# Altium footprint library openmv-ae3.PcbLib: 66 footprints (part 4 of 5)
Each footprint in its own frame and in the unit in brackets; x right, y up, seen from the top. Pads: shape width x height; smd on the part's side, far side on the other; paste and mask are expansions set on the pad; w line width, h text height; cw(c..) or ccw(c..) is an arc to the next point about the centre after c.
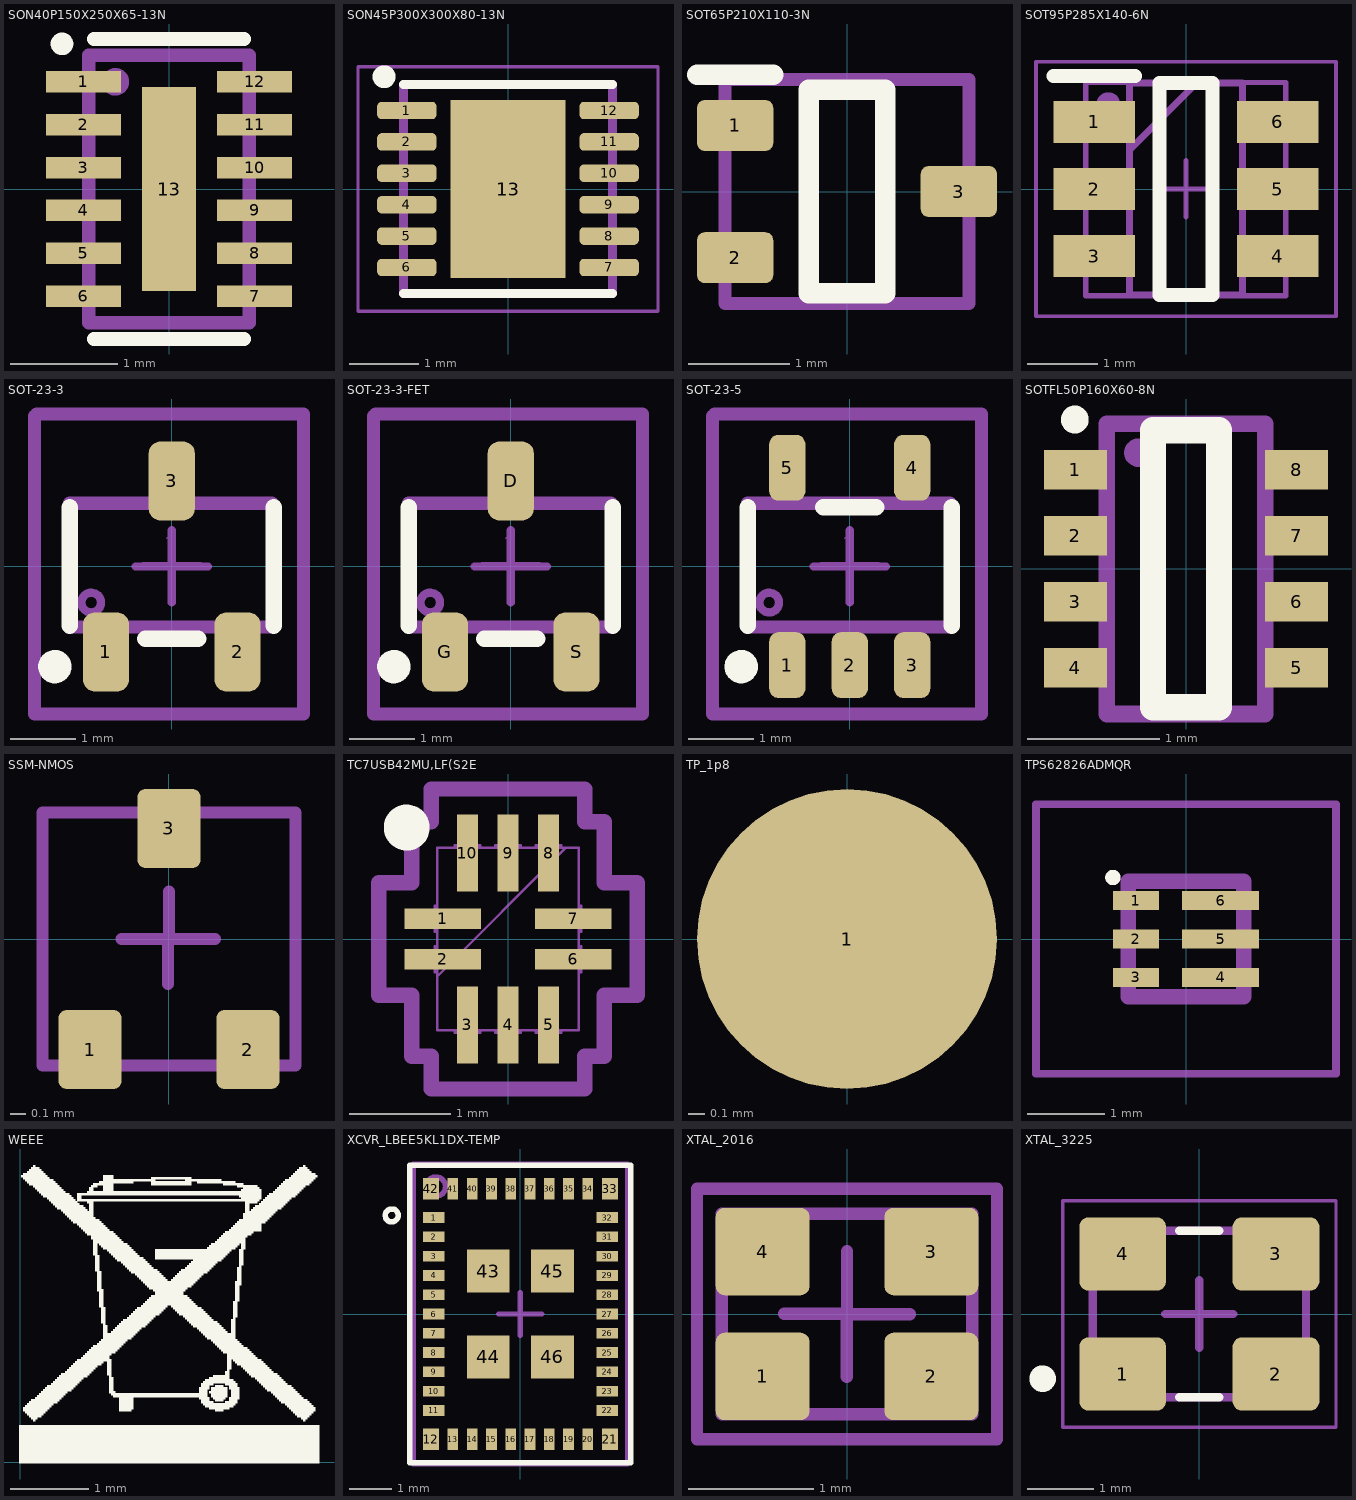
[diagram p3: the footprints below, top view; thin cyan lines are the x and y axes]

## SON40P150X250X65-13N [mil] "SON40P150X250X65-13N"
pads (13):
  rect 27.56x7.87 smd: 1(-31.5,39.37) 2(-31.5,23.62) 3(-31.5,7.87) 4(-31.5,-7.87) 5(-31.5,-23.62) 6(-31.5,-39.37) 7(31.5,-39.37) 8(31.5,-23.62) 9(31.5,-7.87) 10(31.5,7.87) 11(31.5,23.62) 12(31.5,39.37)
  rect 19.69x74.8 smd: 13(0,0)
Top Overlay:
  circle w5: c-39.32,53.32 r1.66
  lines w5: -27.56,-55.12 27.56,-55.12 ; -27.56,55.12 27.56,55.12
Top 3D Body:
  circle w5: c-19.68,39.37 r2.54
  lines w5: -29.53,-49.21 -29.53,49.21 29.53,49.21 29.53,-49.21 -29.53,-49.21
  text ".designator" at 31.01,-47.34 h25
3D body: height 23.62, standoff 0, extent -29.53,-49.21 29.53,49.21

## SON45P300X300X80-13N [mm]
pads (13):
  rrect50% 0.85x0.25 smd mask+0.051: 1(-1.45,1.125) 2(-1.45,0.675) 3(-1.45,0.225) 4(-1.45,-0.225) 5(-1.45,-0.675) 6(-1.45,-1.125) 7(1.45,-1.125) 8(1.45,-0.675) 9(1.45,-0.225) 10(1.45,0.225) 11(1.45,0.675) 12(1.45,1.125)
  rect 1.65x2.55 smd paste-0.254 mask+0.051: 13(0,0)
Top Overlay:
  circle w0.254: c-1.776,1.609 r0.037
  lines w0.127: -1.5,-1.5 1.5,-1.5 ; -1.5,1.5 1.5,1.5
Top 3D Body:
  lines w0.127: -0.25,0 0.25,0 ; 0,-0.25 0,0.25 ; -1.5,-1.5 1.5,-1.5 1.5,1.5 -1.5,1.5 -1.5,-1.5
  text ".designator" at -1.25,-1.635 h0.76
Top Courtyard:
  lines w0.05: -2.15,-1.75 2.15,-1.75 2.15,1.75 -2.15,1.75 -2.15,-1.75
3D body: height 0.5, standoff 0, extent -1.5,-1.5 1.5,1.5

## SOT65P210X110-3N [mm] "SOT65P210X110-3N"
pads (3):
  rrect30% 0.75x0.5 smd: 1(-1.1,0.65) 2(-1.1,-0.65) 3(1.1,0)
Top Overlay:
  lines w0.2: -1.475,1.15 -0.725,1.15 ; -0.375,-1 0.375,-1 0.375,1 -0.375,1 -0.375,-1
Top 3D Body:
  circle w0.127: c-1,0.8 r0.028
  lines w0.127: -1.2,-1.1 -1.2,1.1 1.2,1.1 1.2,-1.1 -1.2,-1.1
  text ".designator" at -1,-1.25 h0.64
3D body "SC-70.stp": height 1.1, standoff 0, extent -1.2,-1.1 1.2,1.1

## SOT95P285X140-6N [mm]
pads (6):
  rect 1.15x0.6 smd: 1(-1.3,0.95) 2(-1.3,0) 3(-1.3,-0.95) 4(1.3,-0.95) 5(1.3,0) 6(1.3,0.95)
Top Overlay:
  lines w0.2: -1.875,1.6 -0.725,1.6 ; -0.375,-1.5 0.375,-1.5 0.375,1.5 -0.375,1.5 -0.375,-1.5
Top 3D Body:
  circle w0.254: c-1.1,1.2 r0.042
  lines w0.076: -0.4,0 0,0 ; 0,-0.395 0,0.005 ; 0,0.4 0,0 ; 0.4,0 0,0 ; -1.421,-1.51 1.415,-1.51 1.415,1.508 -1.421,1.508 -1.421,-1.51
  text ".designator" at -1.2,-1.311 h0.51
Top Courtyard:
  lines w0.1: -0.8,0.55 0.15,1.5 ; -0.8,-1.5 0.8,-1.5 0.8,1.5 -0.8,1.5 -0.8,-1.5
Mechanical 20:
  lines w0.05: -2.125,-1.8 2.125,-1.8 2.125,1.8 -2.125,1.8 -2.125,-1.8
3D body "SOT23-6.stp": height 1.11, standoff -0.07, extent -1.418,-1.5 1.418,1.5

## SOT-23-3 [mm]
height 1.295
pads (3):
  rrect50% 0.7x1.2 smd: 1(-1,-1.3) 2(1,-1.3) 3(0,1.3)
Top Overlay:
  circle w0.254: c-1.778,-1.524 r0.127
  lines w0.254: -1.55,-0.9 -1.55,0.9 ; -0.4,-1.1 0.4,-1.1 ; 1.55,-0.9 1.55,0.9
Top 3D Body:
  circle w0.127: c-1.225,-0.55 r0.15
  lines w0.127: -0.432,0 0,0 ; 0,-0.432 0,0 ; 0,0.432 0,0 ; 0.432,0 0,0
  lines w0.2: -1.557,-0.931 -1.549,-0.923 1.557,-0.923 1.549,-0.916 1.549,0.936 1.524,0.961 -1.557,0.961 -1.557,-0.931
  text ".designator" at -1.346,0.406 h0.4
Top Courtyard:
  lines w0.003: -0.076,0.429 -0.025,0.48
  lines w0.125: -0.55,0 0,0 ; 0,-0.55 0,0 ; 0,0.55 0,0 ; 0.55,0 0,0
  lines w0.2: -2.085,2.285 -2.085,-2.244 2.001,-2.244 2.001,2.318 -2.052,2.318
3D body "SOT23-3.stp": height 1.11, standoff -0.07, extent -1.5,-1.418 1.5,1.418

## SOT-23-3-FET [mm]
height 1.295
pads (3):
  rrect50% 0.7x1.2 smd: D(0,1.3) G(-1,-1.3) S(1,-1.3)
Top Overlay:
  circle w0.254: c-1.778,-1.524 r0.127
  lines w0.254: -1.55,-0.9 -1.55,0.9 ; -0.4,-1.1 0.4,-1.1 ; 1.55,-0.9 1.55,0.9
Top 3D Body:
  circle w0.127: c-1.225,-0.55 r0.15
  lines w0.127: -0.432,0 0,0 ; 0,-0.432 0,0 ; 0,0.432 0,0 ; 0.432,0 0,0
  lines w0.2: -1.557,-0.931 -1.549,-0.923 1.557,-0.923 1.549,-0.916 1.549,0.936 1.524,0.961 -1.557,0.961 -1.557,-0.931
  text ".designator" at -1.346,0.406 h0.4
Top Courtyard:
  lines w0.003: -0.076,0.429 -0.025,0.48
  lines w0.125: -0.55,0 0,0 ; 0,-0.55 0,0 ; 0,0.55 0,0 ; 0.55,0 0,0
  lines w0.2: -2.085,2.285 -2.085,-2.244 2.001,-2.244 2.001,2.318 -2.052,2.318
3D body "SOT23-3.stp": height 1.11, standoff -0.07, extent -1.5,-1.418 1.5,1.418

## SOT-23-5 [mm]
height 1.295
pads (5):
  rrect50% 0.55x1 smd: 1(-0.95,-1.5) 2(0,-1.5) 3(0.95,-1.5) 4(0.95,1.5) 5(-0.95,1.5)
Top Overlay:
  circle w0.254: c-1.651,-1.524 r0.127
  lines w0.254: -1.55,-0.9 -1.55,0.9 ; -0.4,0.9 0.4,0.9 ; 1.55,-0.9 1.55,0.9
Top 3D Body:
  circle w0.127: c-1.225,-0.55 r0.15
  lines w0.127: -0.432,0 0,0 ; 0,-0.432 0,0 ; 0,0.432 0,0 ; 0.432,0 0,0
  lines w0.2: -1.557,-0.931 -1.557,0.961 1.524,0.961 1.549,0.936 1.549,-0.916 1.557,-0.923 -1.549,-0.923 -1.557,-0.931
  text ".designator" at -1.295,0.229 h0.4
Top Courtyard:
  lines w0.003: -0.076,0.429 -0.025,0.48
  lines w0.125: -0.55,0 0,0 ; 0,-0.55 0,0 ; 0,0.55 0,0 ; 0.55,0 0,0
  lines w0.2: -2.085,2.285 -2.085,-2.244 2.001,-2.244 2.001,2.318 -2.052,2.318
3D body "SOT-23-5.stp": height 1.18, standoff 0.01, extent -1.507,-1.336 1.481,1.464

## SOTFL50P160X60-8N [mm] "SOTFL50P160X60-8N"
pads (8):
  rect 0.475x0.3 smd mask+0.051: 1(-0.838,0.75) 2(-0.838,0.25) 3(-0.838,-0.25) 4(-0.838,-0.75) 5(0.838,-0.75) 6(0.838,-0.25) 7(0.838,0.25) 8(0.838,0.75)
Top Overlay:
  circle w0.127: c-0.843,1.131 r0.042
  lines w0.2: -0.25,-1.05 -0.25,1.05 0.25,1.05 0.25,-1.05 -0.25,-1.05
Top 3D Body:
  circle w0.127: c-0.361,0.88 r0.044
  lines w0.127: -0.6,-1.1 0.6,-1.1 0.6,1.1 -0.6,1.1 -0.6,-1.1
  text ".designator" at 0.75,-1.1 h0.64
3D body: height 0.6, standoff 0, extent -0.6,-1.1 0.6,1.1

## SSM-NMOS [mm]
pads (3):
  rrect25% 0.4x0.5 smd mask+0.05: 1(-0.5,-0.7) 2(0.5,-0.7) 3(0,0.7)
Top 3D Body:
  lines w0.076: -0.3,0 0,0 0,0.3 ; -0.007,-0.284 -0.007,0.016 ; -0.007,0 0.293,0 ; -0.8,-0.8 0.8,-0.8 0.8,0.8 -0.8,0.8 -0.8,-0.8
  text ".designator" at -0.7,-0.815 h0.5
3D body: height 0.8, standoff 0, extent -0.8,-0.8 0.8,0.8

## TC7USB42MU,LF(S2E [mm]
pads (10):
  rect 0.757x0.204 smd paste+0 mask+0: 1(-0.645,0.2) 2(-0.645,-0.2) 6(0.645,-0.2) 7(0.645,0.2)
  rect 0.204x0.757 smd paste+0 mask+0: 3(-0.4,-0.848) 4(0,-0.848) 5(0.4,-0.848) 8(0.4,0.848) 9(0,0.848) 10(-0.4,0.848)
Top Overlay:
  circle w0.254: c-1,1.1 r0.1
Top 3D Body:
  lines w0.025: -0.699,-0.368 0.572,0.902 ; -0.724,-0.327 -0.699,-0.327 -0.699,-0.073 -0.724,-0.073 -0.724,-0.327 ; -0.724,0.073 -0.699,0.073 -0.699,0.327 -0.724,0.327 -0.724,0.073 ; -0.699,-0.902 -0.699,0.902 0.699,0.902 0.699,-0.902 -0.699,-0.902 ; -0.527,-0.927 -0.273,-0.927 -0.273,-0.902 -0.527,-0.902 -0.527,-0.927 ; -0.527,0.902 -0.527,0.927 -0.273,0.927 -0.273,0.902 -0.527,0.902 ; -0.127,-0.927 0.127,-0.927 0.127,-0.902 -0.127,-0.902 -0.127,-0.927 ; -0.127,0.902 -0.127,0.927 0.127,0.927 0.127,0.902 -0.127,0.902 ; 0.273,-0.927 0.527,-0.927 0.527,-0.902 0.273,-0.902 0.273,-0.927 ; 0.273,0.902 0.273,0.927 0.527,0.927 0.527,0.902 0.273,0.902 ; 0.699,-0.327 0.724,-0.327 0.724,-0.073 0.699,-0.073 0.699,-0.327 ; 0.699,0.073 0.724,0.073 0.724,0.327 0.699,0.327 0.699,0.073
  text "*" at -0.584,-0.235 h1.27
  text ".designator" at -0.548,-0.929 h0.51
Top Courtyard:
  lines w0.152: -1.278,-0.556 -1.278,0.556 -0.953,0.556 -0.953,1.156 -0.756,1.156 -0.756,1.481 0.756,1.481 0.756,1.156 0.953,1.156 0.953,0.556 1.278,0.556 1.278,-0.556 0.953,-0.556 0.953,-1.156 0.756,-1.156 0.756,-1.481 -0.756,-1.481 -0.756,-1.156 -0.953,-1.156 -0.953,-0.556 -1.278,-0.556
3D body "UQFN10.step": height 0.5, standoff 0, extent -0.7,-0.9 0.7,0.9

## TP_1p8 [mm]
pads (1):
  round 1.8 smd paste-2: 1(0,0)

## TPS62826ADMQR [mm]
pads (6):
  rect 0.6x0.25 smd mask+0.05: 1(-0.65,0.5) 2(-0.65,0) 3(-0.65,-0.5)
  rect 1x0.25 smd mask+0.05: 4(0.45,-0.5) 5(0.45,0) 6(0.45,0.5)
Top Overlay:
  lines w0.1: -1,0.8 ccw(c-0.95,0.8) -0.9,0.8 ccw(c-0.95,0.8) -1,0.8
Top 3D Body:
  lines w0.076: -0.763,-0.734 0.731,-0.734 0.731,0.735 -0.763,0.735 -0.763,-0.734
  text ".designator" at -0.7,-0.711 h0.51
Top Courtyard:
  lines w0.2: -0.75,-0.75 -0.75,0.75 0.75,0.75 0.75,-0.75 -0.75,-0.75
Mechanical 20:
  lines w0.1: -1.95,-1.75 -1.95,1.75 1.95,1.75 1.95,-1.75 -1.95,-1.75
3D body: height 0.5, standoff 0, extent -0.76,-0.74 0.734,0.738

## WEEE [mm] "WEEE"
Top Overlay:
  drawing of 457 lines, arcs and shapes, not listed

## XCVR_LBEE5KL1DX-TEMP [mm] "XCVR_LBEE5KL1DX-TEMP"
pads (46):
  rect 0.5x0.25 smd mask+0.051: 1(-2.025,2.25) 2(-2.025,1.8) 3(-2.025,1.35) 4(-2.025,0.9) 5(-2.025,0.45) 6(-2.025,0) 7(-2.025,-0.45) 8(-2.025,-0.9) 9(-2.025,-1.35) 10(-2.025,-1.8) 11(-2.025,-2.25) 22(2.025,-2.25) 23(2.025,-1.8) 24(2.025,-1.35) 25(2.025,-0.9) 26(2.025,-0.45) 27(2.025,0) 28(2.025,0.45) 29(2.025,0.9) 30(2.025,1.35) 31(2.025,1.8) 32(2.025,2.25)
  rect 0.375x0.5 smd mask+0.051: 12(-2.088,-2.925) 21(2.088,-2.925) 33(2.088,2.925) 42(-2.088,2.925)
  rect 0.25x0.5 smd mask+0.051: 13(-1.575,-2.925) 14(-1.125,-2.925) 15(-0.675,-2.925) 16(-0.225,-2.925) 17(0.225,-2.925) 18(0.675,-2.925) 19(1.125,-2.925) 20(1.575,-2.925) 34(1.575,2.925) 35(1.125,2.925) 36(0.675,2.925) 37(0.225,2.925) 38(-0.225,2.925) 39(-0.675,2.925) 40(-1.125,2.925) 41(-1.575,2.925)
  rect 1x1 smd mask+0.051: 43(-0.75,1) 44(-0.75,-1) 45(0.75,1) 46(0.75,-1)
Top Overlay:
  circle w0.127: c-3,2.3 r0.15
  lines w0.127: -2.575,-3.475 2.575,-3.475 2.575,3.475 -2.575,3.475 -2.575,-3.475
Top 3D Body:
  circle w0.127: c-1.968,2.973 r0.224
  lines w0.127: -0.5,0 0,0 ; 0,-0.5 0,0 ; 0,0.5 0,0 ; 0.5,0 0,0 ; -2.5,-3.5 -2.5,3.5 2.5,3.5 2.5,-3.5 -2.5,-3.5
3D body: height 1.1, standoff 0, extent -2.5,-3.5 2.5,3.5

## XTAL_2016 [mm] "2.0x1.6mm"
pads (4):
  rrect20% 0.75x0.7 smd mask+0.05: 1(-0.675,-0.5) 2(0.675,-0.5) 3(0.675,0.5) 4(-0.675,0.5)
Top 3D Body:
  circle w0.1: c-0.6,-0.4 r0.1
  lines w0.1: -0.5,0 0,0 ; 0,-0.5 0,0 ; 0,0.5 0,0 ; 0.5,0 0,0 ; 0,0 0,0 ; -1,-0.8 -1,0.8 1,0.8 1,-0.8 -1,-0.8
  text ".designator" at -0.8,1 h0.4
Top Courtyard:
  circle w0.1: c-0.6,-0.4 r0.1
  lines w0.1: -0.5,0 0,0 ; 0,-0.5 0,0 ; 0,0.5 0,0 ; 0.5,0 0,0 ; 0,0 0,0 ; -1.2,-1 1.2,-1 1.2,1 -1.2,1 -1.2,-1
3D body: height 0.65, standoff 0, extent -1,-0.8 1,0.8

## XTAL_3225 [mm]
pads (4):
  rrect25% 1.3x1.1 smd: 1(-1.15,-0.9) 2(1.15,-0.9) 3(1.15,0.9) 4(-1.15,0.9)
Top Overlay:
  circle w0.2: c-2.35,-0.97 r0.1
  lines w0.127: -0.3,-1.25 0.3,-1.25 ; -0.3,1.25 0.3,1.25
Top 3D Body:
  circle w0.2: c-1.143,-0.889 r0.1
  lines w0.127: -0.508,0 0,0 ; 0,-0.508 0,0 ; 0,0.508 0,0 ; 0.508,0 0,0 ; 0,0 0,0 ; -1.6,-1.25 -1.6,1.25 1.6,1.25 1.6,-1.25 -1.6,-1.25
  text ".designator" at -1.15,0.35 h0.64
Top Courtyard:
  lines w0.05: -2.05,-1.7 -2.05,1.7 2.05,1.7 2.05,-1.7 -2.05,-1.7
3D body "step_temp.STEP": height 0.8, standoff 0, extent -1.6,-1.25 1.6,1.25